# Altium footprint library AOP_TPs_ELAN_21-22Source.PcbLib: 29 footprints (part 1 of 2)
Each footprint in its own frame and in the unit in brackets; x right, y up, seen from the top. Pads: shape width x height; smd on the part's side, far side on the other; paste and mask are expansions set on the pad; w line width, h text height; cw(c..) or ccw(c..) is an arc to the next point about the centre after c.
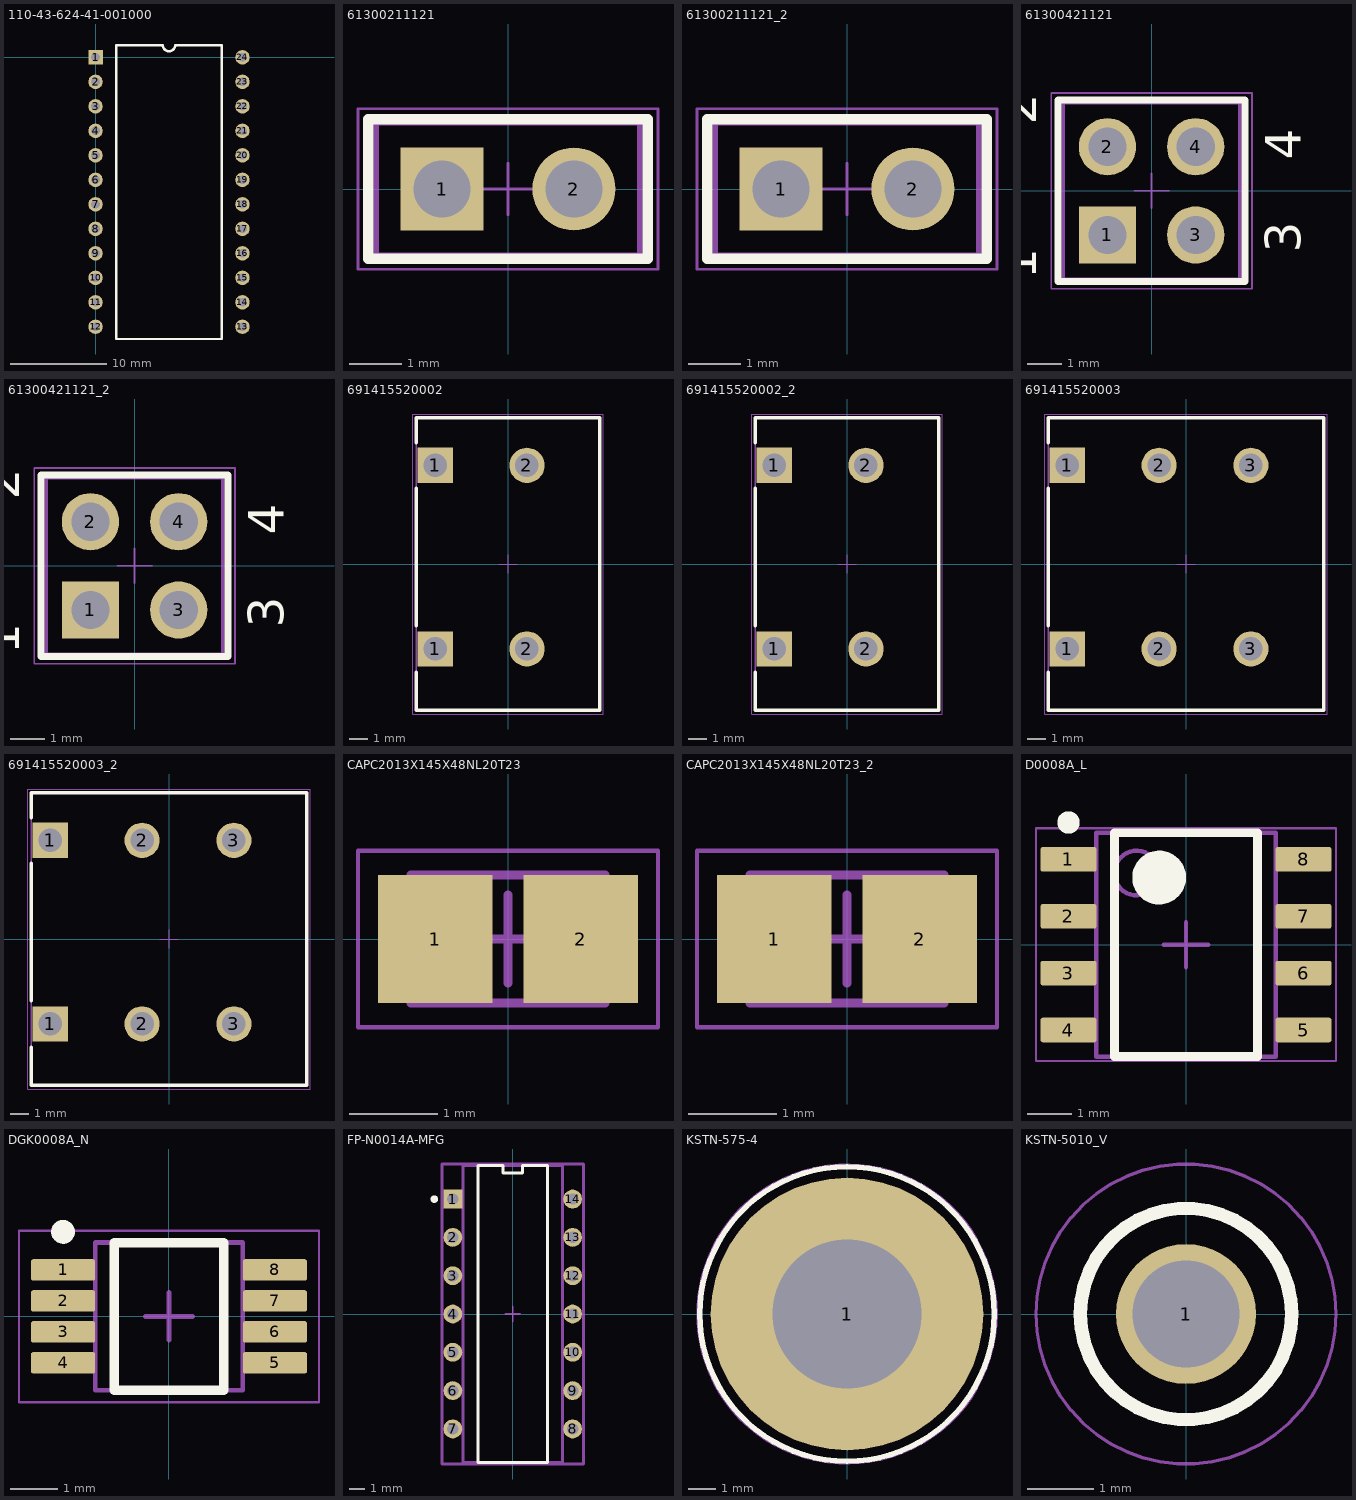
[diagram p0: the footprints below, top view; thin cyan lines are the x and y axes]

## 110-43-624-41-001000 [mm]
pads (24):
  rect 1.5x1.5 hole 0.9: 1(0,0)
  round 1.5 hole 0.9: 2(0,-2.54) 3(0,-5.08) 4(0,-7.62) 5(0,-10.16) 6(0,-12.7) 7(0,-15.24) 8(0,-17.78) 9(0,-20.32) 10(0,-22.86) 11(0,-25.4) 12(0,-27.94) 13(15.24,-27.94) 14(15.24,-25.4) 15(15.24,-22.86) 16(15.24,-20.32) 17(15.24,-17.78) 18(15.24,-15.24) 19(15.24,-12.7) 20(15.24,-10.16) 21(15.24,-7.62) 22(15.24,-5.08) 23(15.24,-2.54) 24(15.24,0)
Top Overlay:
  lines w0.254: 2.159,-29.21 2.159,1.27 6.985,1.27 ccw(c7.62,1.27) 8.255,1.27 13.081,1.27 13.081,-29.21 2.159,-29.21

## 61300211121 [mm] "Pin Header, pitch 2.54 mm, THT, Vertical, single row, 2p"
height 8.54
pads (2):
  rect 1.6x1.6 hole 1.1: 1(-1.27,0)
  round 1.6 hole 1.1: 2(1.27,0)
Top Overlay:
  lines w0.2: -2.69,-1.345 -2.69,1.345 2.69,1.345 2.69,-1.345 -2.69,-1.345
Mechanical 13:
  lines w0.1: -2.54,-1.27 2.54,-1.27 2.54,1.27 -2.54,1.27 -2.54,-1.27
Mechanical 15:
  lines w0.05: -0.5,0 0.5,0 ; 0,-0.5 0,0.5 ; -2.89,-1.545 2.89,-1.545 2.89,1.545 -2.89,1.545 -2.89,-1.545
3D body "61300211121.stp": height 8.57, standoff -2.97, extent -2.54,-1.27 2.54,1.27

## 61300211121_2 [mm]
pads (2):
  rect 1.6x1.6 hole 1.1: 1(-1.27,0)
  round 1.6 hole 1.1: 2(1.27,0)
Top Overlay:
  lines w0.2: -2.69,-1.345 -2.69,1.345 2.69,1.345 2.69,-1.345 -2.69,-1.345
Mechanical 13:
  lines w0.1: -2.54,-1.27 2.54,-1.27 2.54,1.27 -2.54,1.27 -2.54,-1.27
Mechanical 15:
  lines w0.05: -0.5,0 0.5,0 ; 0,-0.5 0,0.5 ; -2.89,-1.545 2.89,-1.545 2.89,1.545 -2.89,1.545 -2.89,-1.545
3D body "61300211121.stp": height 8.57, standoff -2.97, extent -2.54,-1.27 2.54,1.27

## 61300421121 [mm] "Pin Header, pitch 2.54 mm, THT, Vertical, dual row, 4p"
height 8.54
pads (4):
  rect 1.65x1.65 hole 1.1: 1(-1.27,-1.27)
  round 1.65 hole 1.1: 2(-1.27,1.27) 3(1.27,-1.27) 4(1.27,1.27)
Top Overlay:
  lines w0.2: -2.69,-2.615 -2.69,2.615 2.69,2.615 2.69,-2.615 -2.69,-2.615
  text "1" at -3.326,-2.54 h1.02
  text "2" at -3.326,1.905 h1.02
  text "3" at 4.294,-1.778 h1.02
  text "4" at 4.294,0.9 h1.02
Mechanical 13:
  lines w0.1: -2.54,-2.54 -2.54,2.54 2.54,2.54 2.54,-2.54 -2.54,-2.54
Mechanical 15:
  lines w0.05: -0.5,0 0.5,0 ; 0,-0.5 0,0.5 ; -2.89,-2.815 2.89,-2.815 2.89,2.815 -2.89,2.815 -2.89,-2.815
3D body "61300421121.stp": height 8.59, standoff -2.95, extent -2.54,-2.54 2.54,2.54

## 61300421121_2 [mm]
pads (4):
  rect 1.65x1.65 hole 1.1: 1(-1.27,-1.27)
  round 1.65 hole 1.1: 2(-1.27,1.27) 3(1.27,-1.27) 4(1.27,1.27)
Top Overlay:
  lines w0.2: -2.69,-2.615 -2.69,2.615 2.69,2.615 2.69,-2.615 -2.69,-2.615
  text "1" at -3.326,-2.54 h1.02
  text "2" at -3.326,1.905 h1.02
  text "3" at 4.294,-1.778 h1.02
  text "4" at 4.294,0.9 h1.02
Mechanical 13:
  lines w0.1: -2.54,-2.54 -2.54,2.54 2.54,2.54 2.54,-2.54 -2.54,-2.54
Mechanical 15:
  lines w0.05: -0.5,0 0.5,0 ; 0,-0.5 0,0.5 ; -2.89,-2.815 2.89,-2.815 2.89,2.815 -2.89,2.815 -2.89,-2.815
3D body "61300421121.stp": height 8.59, standoff -2.95, extent -2.54,-2.54 2.54,2.54

## 691415520002 [mm] "5.08 mm Screwless 45¡ã Entry, 2p"
height 13
pads (4):
  rect 1.95x1.95 hole 1.3: 1(-4.03,-4.7) 1(-4.03,5.46)
  round 1.95 hole 1.3: 2(1.05,-4.7) 2(1.05,5.46)
Top Overlay:
  lines w0.2: -5.08,-6 -5.08,-8.1 5.08,-8.1 5.08,8.1 -5.08,8.1 -5.08,6.72 ; -5.08,-3.4 -5.08,4.2
Mechanical 13:
  lines w0.1: -5.08,-8.1 -5.08,8.1 5.08,8.1 5.08,-8.1 -5.08,-8.1
Mechanical 15:
  lines w0.05: -0.5,0 0.5,0 ; 0,-0.5 0,0.5 ; -5.28,-8.3 -5.28,8.3 5.28,8.3 5.28,-8.3 -5.28,-8.3
3D body "691415520002.stp": height 13.1, standoff -3.4, extent -5.08,-8.1 5.08,8.1

## 691415520002_2 [mm]
pads (4):
  rect 1.95x1.95 hole 1.3: 1(-4.03,-4.7) 1(-4.03,5.46)
  round 1.95 hole 1.3: 2(1.05,-4.7) 2(1.05,5.46)
Top Overlay:
  lines w0.2: -5.08,-6 -5.08,-8.1 5.08,-8.1 5.08,8.1 -5.08,8.1 -5.08,6.72 ; -5.08,-3.4 -5.08,4.2
Mechanical 13:
  lines w0.1: -5.08,-8.1 -5.08,8.1 5.08,8.1 5.08,-8.1 -5.08,-8.1
Mechanical 15:
  lines w0.05: -0.5,0 0.5,0 ; 0,-0.5 0,0.5 ; -5.28,-8.3 -5.28,8.3 5.28,8.3 5.28,-8.3 -5.28,-8.3
3D body "691415520002.stp": height 13.1, standoff -3.4, extent -5.08,-8.1 5.08,8.1

## 691415520003 [mm] "5.08 mm Screwless 45¡ã Entry, 3p"
height 13
pads (6):
  rect 1.95x1.95 hole 1.3: 1(-6.57,-4.7) 1(-6.57,5.46)
  round 1.95 hole 1.3: 2(-1.49,-4.7) 2(-1.49,5.46) 3(3.59,-4.7) 3(3.59,5.46)
Top Overlay:
  lines w0.2: -7.62,-6 -7.62,-8.1 7.62,-8.1 7.62,8.1 -7.62,8.1 -7.62,6.72 ; -7.62,-3.4 -7.62,4.2
Mechanical 13:
  lines w0.1: -7.62,-8.1 -7.62,8.1 7.62,8.1 7.62,-8.1 -7.62,-8.1
Mechanical 15:
  lines w0.05: -0.5,0 0.5,0 ; 0,-0.5 0,0.5 ; -7.82,-8.3 -7.82,8.3 7.82,8.3 7.82,-8.3 -7.82,-8.3
3D body "691415520003.stp": height 13.1, standoff -3.4, extent -7.62,-8.1 7.62,8.1

## 691415520003_2 [mm]
pads (6):
  rect 1.95x1.95 hole 1.3: 1(-6.57,-4.7) 1(-6.57,5.46)
  round 1.95 hole 1.3: 2(-1.49,-4.7) 2(-1.49,5.46) 3(3.59,-4.7) 3(3.59,5.46)
Top Overlay:
  lines w0.2: -7.62,-6 -7.62,-8.1 7.62,-8.1 7.62,8.1 -7.62,8.1 -7.62,6.72 ; -7.62,-3.4 -7.62,4.2
Mechanical 13:
  lines w0.1: -7.62,-8.1 -7.62,8.1 7.62,8.1 7.62,-8.1 -7.62,-8.1
Mechanical 15:
  lines w0.05: -0.5,0 0.5,0 ; 0,-0.5 0,0.5 ; -7.82,-8.3 -7.82,8.3 7.82,8.3 7.82,-8.3 -7.82,-8.3
3D body "691415520003.stp": height 13.1, standoff -3.4, extent -7.62,-8.1 7.62,8.1

## CAPC2013X145X48NL20T23 [mm] "Chip Capacitor, 2-Leads, Body 2.00x1.25mm, IPC Medium Density"
height 1.45
pads (2):
  rect 1.3x1.45 smd: 1(-0.825,0) 2(0.825,0)
Mechanical 13:
  lines w0.1: -1.1,-0.725 -1.1,0.725 1.1,0.725 1.1,-0.725 -1.1,-0.725
Mechanical 15:
  lines w0.05: -1.7,-1 -1.7,1 1.7,1 1.7,-1 -1.7,-1
  lines w0.1: -0.5,0 0.5,0 ; 0,-0.5 0,0.5
3D body: height 1.45, standoff 0, extent -0.62,-0.725 0.62,0.725
3D body: height 1.45, standoff 0, extent -1.1,-0.725 -0.62,0.725
3D body: height 1.45, standoff 0, extent 0.62,-0.725 1.1,0.725

## CAPC2013X145X48NL20T23_2 [mm]
pads (2):
  rect 1.3x1.45 smd: 1(-0.825,0) 2(0.825,0)
Mechanical 13:
  lines w0.1: -1.1,-0.725 -1.1,0.725 1.1,0.725 1.1,-0.725 -1.1,-0.725
Mechanical 15:
  lines w0.05: -1.7,-1 -1.7,1 1.7,1 1.7,-1 -1.7,-1
  lines w0.1: -0.5,0 0.5,0 ; 0,-0.5 0,0.5
3D body: height 1.45, standoff 0, extent -0.62,-0.725 0.62,0.725
3D body: height 1.45, standoff 0, extent -1.1,-0.725 -0.62,0.725
3D body: height 1.45, standoff 0, extent 0.62,-0.725 1.1,0.725

## D0008A_L [mm] "SOIC, 8-Leads, Body 5x4mm, Pitch 1.27mm, IPC High Density"
height 1.75
pads (8):
  rrect18% 1.25x0.55 smd: 1(-2.625,1.905) 2(-2.625,0.635) 3(-2.625,-0.635) 4(-2.625,-1.905) 5(2.625,-1.905) 6(2.625,-0.635) 7(2.625,0.635) 8(2.625,1.905)
Top Overlay:
  circle w0.6: c-0.6,1.5 r0.3
  circle w0.25: c-2.625,2.73 r0.125
  lines w0.2: -1.6,-2.5 1.6,-2.5 1.6,2.5 -1.6,2.5 -1.6,-2.5
Mechanical 1:
  text ".Designator" at -1.397,-0.254 h0.6
Mechanical 13:
  circle w0.1: c-1.1,1.6 r0.5
  lines w0.1: -2,-2.5 2,-2.5 2,2.5 -2,2.5 -2,-2.5
Mechanical 15:
  lines w0.05: -3.35,-2.6 3.35,-2.6 3.35,2.6 -3.35,2.6 -3.35,-2.6
  lines w0.1: -0.5,0 0.5,0 ; 0,-0.5 0,0.5
3D body "SOIC-8akaD0008AakaM08A.stp": height 1.63, standoff 0, extent -3,-2.45 3,2.45

## DGK0008A_N [mm] "TSOP, 8-Leads, Body 3.1x3.1mm, Pitch 0.65mm, IPC Medium Density"
height 1.1
pads (8):
  rrect22% 1.35x0.45 smd: 1(-2.225,0.975) 2(-2.225,0.325) 3(-2.225,-0.325) 4(-2.225,-0.975) 5(2.225,-0.975) 6(2.225,-0.325) 7(2.225,0.325) 8(2.225,0.975)
Top Overlay:
  circle w0.25: c-2.225,1.775 r0.125
  lines w0.2: -1.15,-1.55 -1.15,1.55 1.15,1.55 1.15,-1.55 -1.15,-1.55
Mechanical 1:
  text ".Designator" at -1.397,-0.254 h0.7
Mechanical 13:
  lines w0.1: -1.55,-1.55 -1.55,1.55 1.55,1.55 1.55,-1.55 -1.55,-1.55
Mechanical 15:
  lines w0.05: -3.15,-1.8 -3.15,1.8 3.15,1.8 3.15,-1.8 -3.15,-1.8
  lines w0.1: -0.5,0 0.5,0 ; 0,-0.5 0,0.5
3D body "MUY08A_ASM.stp": height 0.94, standoff -0.02, extent -2.451,-1.499 2.451,1.499

## FP-N0014A-MFG [mm]
pads (14):
  rect 1.25x1.25 hole 0.75: 1(-3.97,7.62)
  round 1.25 hole 0.75: 2(-3.97,5.08) 3(-3.97,2.54) 4(-3.97,0) 5(-3.97,-2.54) 6(-3.97,-5.08) 7(-3.97,-7.62) 8(3.97,-7.62) 9(3.97,-5.08) 10(3.97,-2.54) 11(3.97,0) 12(3.97,2.54) 13(3.97,5.08) 14(3.97,7.62)
Top Overlay:
  circle w0.25: c-5.2,7.62 r0.125
  lines w0.2: -2.3,-9.845 2.3,-9.845 2.3,9.845 0.657,9.845 0.657,9.345 -0.657,9.345 -0.657,9.845 -2.3,9.845 -2.3,-9.845
Top 3D Body:
  lines w0.2: -3.3,-9.845 -3.3,9.845 3.3,9.845 3.3,-9.845 -3.3,-9.845
Top Courtyard:
  lines w0.2: -4.695,-9.945 -4.695,9.945 4.695,9.945 4.695,-9.945 -4.695,-9.945
Top Assembly:
  lines w0.2: -4.695,-9.945 -4.695,9.945 4.695,9.945 4.695,-9.945 -4.695,-9.945
  text ".Designator" at 0,0.188 h1
Top Component Center:
  lines w0.1: -0.5,0 0.5,0 ; 0,-0.5 0,0.5
3D body "IC_Texas_Instruments_SN7406N_eec.STEP": height 0.25, standoff 0, extent -4.695,-9.945 4.695,9.945

## KSTN-575-4 [mm] "Banana Jack, Non-Insulated, Dia 7.92mm"
height 7.86
pads (1):
  round 10 hole 5.45: 1(0,0)
Top Overlay:
  circle w0.2: c0,0 r5.4
Bottom Overlay:
  circle w0.2: c0,0 r5.4
Mechanical 13:
  circle w0.1: c-0.031,-0.008 r2.095
  circle w0.1: c-0.031,-0.008 r3.96
Mechanical 15:
  circle w0.05: c0,0 r5.5
  lines w0.1: -0.5,0 0.5,0 ; 0,-0.5 0,0.5
3D body "Keystone_575-4.stp": height 2.36, standoff -5.5, extent -3.981,-3.957 3.919,3.941

## KSTN-5010_V [mm] "Test Point, Dia 3.17mm"
height 8.28
pads (1):
  round 2.1 hole 1.6: 1(0,0)
Top Overlay:
  circle w0.2: c0,0 r1.585
Mechanical 13:
  circle w0.1: c0,0 r1.585
Mechanical 15:
  circle w0.05: c0,0 r2.25
  lines w0.1: -0.5,0 0.5,0 ; 0,-0.5 0,0.5
3D body "keystone-PN5010.STEP": height 8.13, standoff -3.17, extent -1.587,-1.587 1.588,1.588